# Altium footprint library Connectors.PcbLib: 65 footprints (part 1 of 5)
Each footprint in its own frame and in the unit in brackets; x right, y up, seen from the top. Pads: shape width x height; smd on the part's side, far side on the other; paste and mask are expansions set on the pad; w line width, h text height; cw(c..) or ccw(c..) is an arc to the next point about the centre after c.
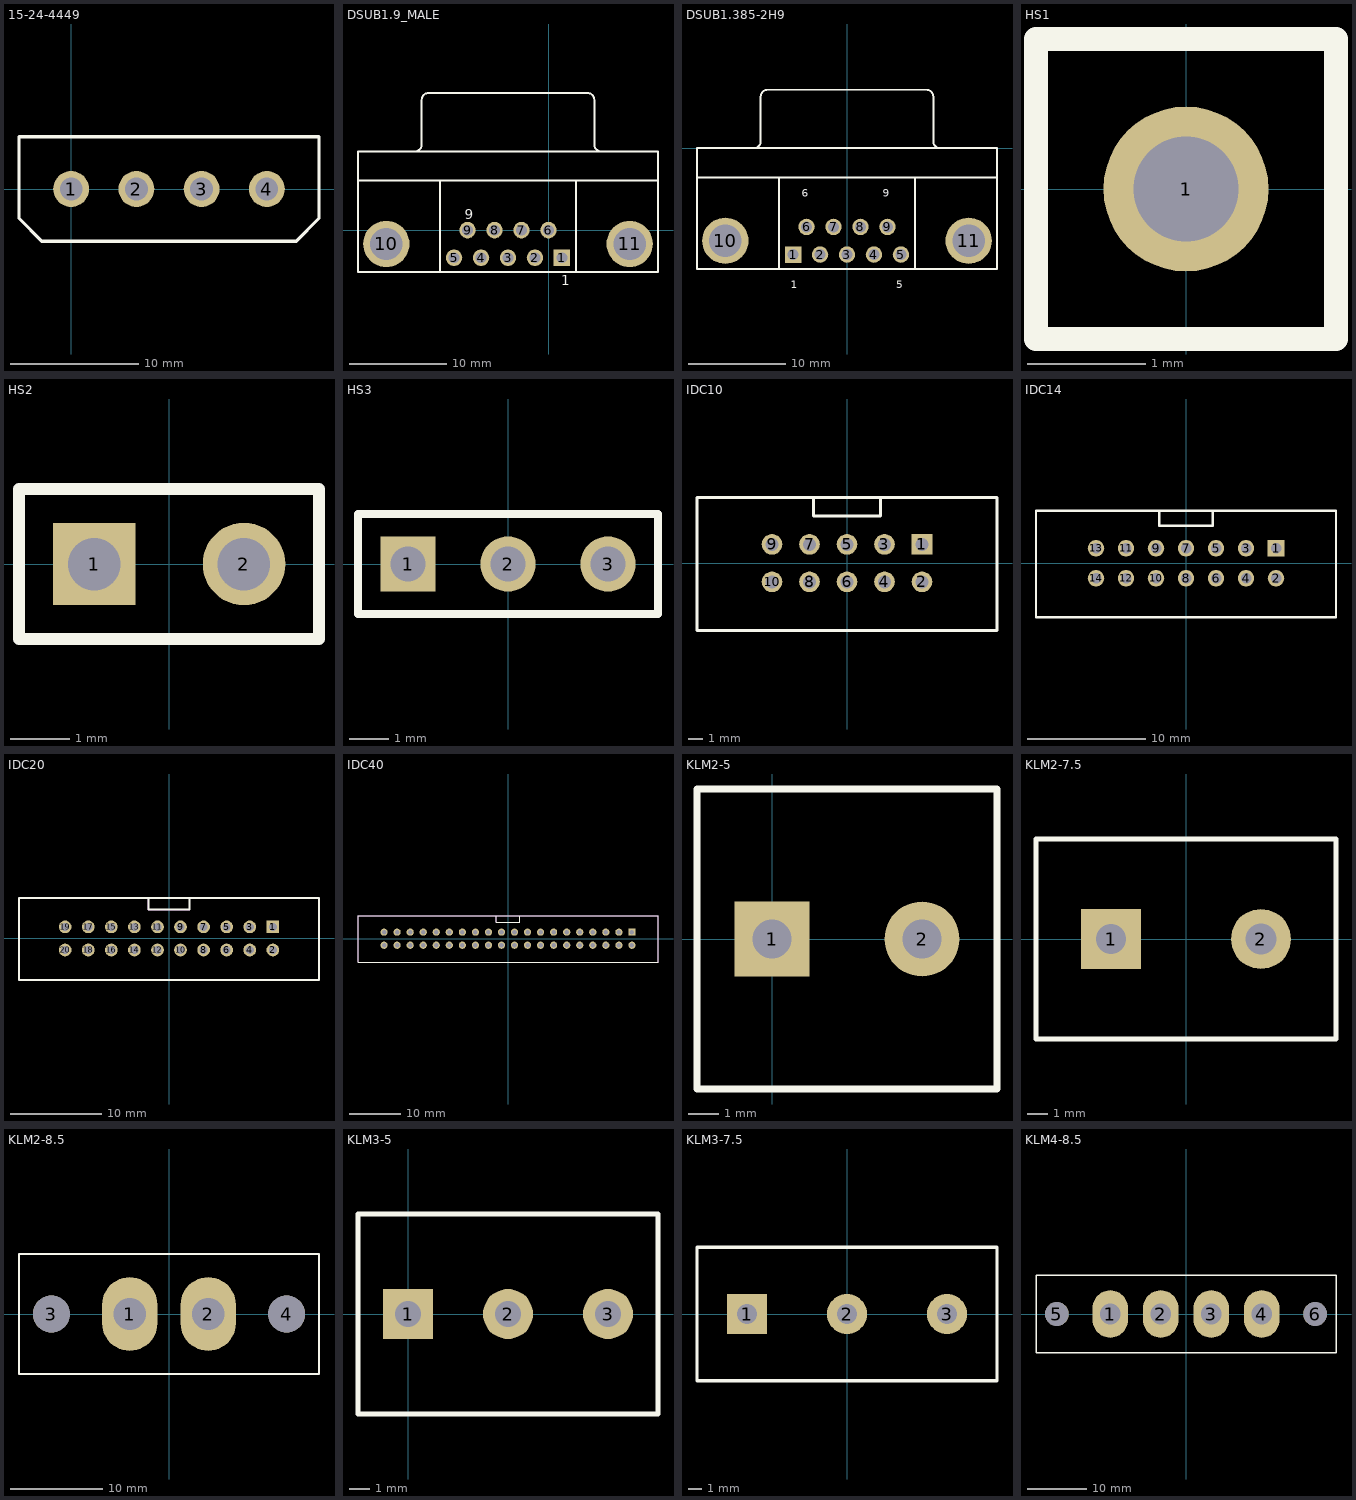
[diagram p0: the footprints below, top view; thin cyan lines are the x and y axes]

## 15-24-4449 [mil] "5.08mm Pitch Disk Drive Power Connection System Header, Vertical, Through Hole, 4  Circuits, Lead-Free, 3.60mm PC Tail Length, without PCB Locator Peg"
height 400
pads (4):
  round 110 hole 70: 1(0,0) 2(200,0) 3(400,0) 4(600,0)
Top Overlay:
  lines w10: -160,-90 -160,160 760,160 760,-90 690,-160 -90,-160 -160,-90

## DSUB1.9_MALE [mm]
pads (11):
  rect 1.69x1.69 hole 1.1: 1(1.382,-2.843)
  round 1.69 hole 1.1: 2(-1.388,-2.843) 3(-4.158,-2.843) 4(-6.928,-2.843) 5(-9.698,-2.843) 6(-0.003,-0.003) 7(-2.773,-0.003) 8(-5.543,-0.003) 9(-8.313,-0.003)
  round 4.76 hole 3.3: 10(-16.653,-1.423) 11(8.337,-1.423)
Top Overlay:
  lines w0.2: -19.558,5.077 11.242,5.077 ; -13.718,8.082 ccw(c-13.718,8.777) -13.023,8.777 -13.023,13.377 ; -13.018,13.382 cw(c-12.323,13.382) -12.323,14.077 4.007,14.077 cw(c4.007,13.382) 4.702,13.382 ; -11.158,-4.323 -11.158,5.077 ; 2.842,-4.323 2.842,5.077 ; 4.707,13.377 4.707,8.777 ccw(c5.402,8.777) 5.402,8.082 ; -19.558,-4.323 -19.558,8.077 11.242,8.077 11.242,-4.323 -19.558,-4.323
  text "1" at 1.321,-5.639 h1
  text "9" at -8.585,1.092 h1

## DSUB1.385-2H9 [mm]
pads (11):
  rect 1.69x1.69 hole 1.1: 1(-5.54,-10.92)
  round 1.69 hole 1.1: 2(-2.77,-10.92) 3(0,-10.92) 4(2.77,-10.92) 5(5.54,-10.92) 6(-4.155,-8.08) 7(-1.385,-8.08) 8(1.385,-8.08) 9(4.155,-8.08)
  round 4.76 hole 3.3: 10(-12.495,-9.5) 11(12.495,-9.5)
Top Overlay:
  lines w0.2: -15.4,-3 15.4,-3 ; -9.56,0.005 ccw(c-9.56,0.7) -8.865,0.7 -8.865,5.3 ; -8.86,5.305 cw(c-8.165,5.305) -8.165,6 8.165,6 cw(c8.165,5.305) 8.86,5.305 ; -7,-12.4 -7,-3 ; 7,-12.4 7,-3 ; 8.865,5.3 8.865,0.7 ccw(c9.56,0.7) 9.56,0.005 ; -15.4,-12.4 15.4,-12.4 15.4,0 -15.4,0 -15.4,-12.4
  text "6" at -4.655,-4.975 h0.8
  text "9" at 3.655,-4.975 h0.8
  text "5" at 5.04,-14.375 h0.8
  text "1" at -5.79,-14.375 h0.8

## HS1 [mil]
pads (1):
  round 55 hole 35 mask+4: 1(0,0)
Top Overlay:
  lines w8: -50,-50 -50,50 50,50 50,-50 -50,-50
Mechanical 1:
  lines w4: -50,-50 -50,50 50,50 50,-50 -50,-50

## HS2 [mil]
pads (2):
  rect 55x55 hole 35 mask+4: 1(-50,0)
  round 55 hole 35 mask+4: 2(50,0)
Top Overlay:
  lines w8: -100,-50 100,-50 100,50 -100,50 -100,-50
Mechanical 1:
  lines w4: -100,-50 100,-50 100,50 -100,50 -100,-50

## HS3 [mil]
pads (3):
  rect 55x55 hole 35 mask+4: 1(-100,0)
  round 55 hole 35 mask+4: 2(0,0) 3(100,0)
Top Overlay:
  lines w8: -150,-50 -150,50 150,50 150,-50 -150,-50
Mechanical 1:
  lines w4: -150,-50 -150,50 150,50 150,-50 -150,-50

## IDC10 [mil]
pads (10):
  rect 55x55 hole 35 mask+4: 1(200,50)
  round 55 hole 35 mask+4: 2(200,-50) 3(100,50) 4(100,-50) 5(0,50) 6(0,-50) 7(-100,50) 8(-100,-50) 9(-200,50) 10(-200,-50)
Top Overlay:
  lines w8: -89,175 -89,125 89,125 89,175 ; -400,-180 -400,175 400,175 400,-180 -400,-180
Mechanical 1:
  lines w4: -89,175 -89,125 89,125 89,175 ; -400,-180 -400,175 400,175 400,-180 -400,-180

## IDC14 [mil]
pads (14):
  rect 55x55 hole 35 mask+4: 1(300,50)
  round 55 hole 35 mask+4: 2(300,-50) 3(200,50) 4(200,-50) 5(100,50) 6(100,-50) 7(0,50) 8(0,-50) 9(-100,50) 10(-100,-50) 11(-200,50) 12(-200,-50) 13(-300,50) 14(-300,-50)
Top Overlay:
  lines w8: -89,175 -89,125 89,125 89,175 ; -500,-180 500,-180 500,175 -500,175 -500,-180
Mechanical 1:
  lines w4: -89,175 -89,125 89,125 89,175 ; -500,-180 500,-180 500,175 -500,175 -500,-180

## IDC20 [mil]
pads (20):
  rect 55x55 hole 35 mask+4: 1(450,50)
  round 55 hole 35 mask+4: 2(450,-50) 3(350,50) 4(350,-50) 5(250,50) 6(250,-50) 7(150,50) 8(150,-50) 9(50,50) 10(50,-50) 11(-50,50) 12(-50,-50) 13(-150,50) 14(-150,-50) 15(-250,50) 16(-250,-50) 17(-350,50) 18(-350,-50) 19(-450,50) 20(-450,-50)
Top Overlay:
  lines w8: -89,175 -89,125 89,125 89,175 ; -650,-180 -650,175 650,175 650,-180 -650,-180
Mechanical 1:
  lines w4: -89,175 -89,125 89,125 89,175 ; -650,-180 -650,175 650,175 650,-180 -650,-180

## IDC40 [mil]
pads (40):
  rect 55x55 hole 35 mask+4: 1(950,50)
  round 55 hole 35 mask+4: 2(950,-50) 3(850,50) 4(850,-50) 5(750,50) 6(750,-50) 7(650,50) 8(650,-50) 9(550,50) 10(550,-50) 11(450,50) 12(450,-50) 13(350,50) 14(350,-50) 15(250,50) 16(250,-50) 17(150,50) 18(150,-50) 19(50,50) 20(50,-50) 21(-50,50) 22(-50,-50) 23(-150,50) 24(-150,-50) 25(-250,50) 26(-250,-50) 27(-350,50) 28(-350,-50) 29(-450,50) 30(-450,-50) 31(-550,50) 32(-550,-50) 33(-650,50) 34(-650,-50) 35(-750,50) 36(-750,-50) 37(-850,50) 38(-850,-50) 39(-950,50) 40(-950,-50)
Top Overlay:
  lines w8: -89,175 -89,125 89,125 89,175 ; -1150,-180 1150,-180 1150,175 -1150,175 -1150,-180
Mechanical 1:
  lines w4: -89,175 -89,125 89,125 89,175 ; -1150,-180 1150,-180 1150,175 -1150,175 -1150,-180

## KLM2-5 [mm]
pads (2):
  rect 2.5x2.5 hole 1.3: 1(0,0)
  round 2.5 hole 1.3: 2(5,0)
Top Overlay:
  lines w0.25: -2.5,-5 -2.5,5 7.5,5 7.5,-5 -2.5,-5

## KLM2-7.5 [mm]
pads (2):
  rect 3x3 hole 1.5: 1(-3.75,0)
  round 3 hole 1.53: 2(3.75,0)
Top Overlay:
  lines w0.25: -7.5,-5 7.5,-5 7.5,5 -7.5,5 -7.5,-5

## KLM2-8.5 [mm]
pads (4):
  oval 6x8 hole 3.5: 1(-4.25,0) 2(4.25,0)
  round 4 hole 4: 3(-12.75,0) 4(12.75,0)
Top Overlay:
  lines w0.25: -16.25,-6.5 16.25,-6.5 16.25,6.5 -16.25,6.5 -16.25,-6.5

## KLM3-5 [mm]
pads (3):
  rect 2.5x2.5 hole 1.3: 1(0,0)
  round 2.5 hole 1.3: 2(5,0) 3(10,0)
Top Overlay:
  lines w0.25: -2.5,-5 12.5,-5 12.5,5 -2.5,5 -2.5,-5

## KLM3-7.5 [mm]
pads (3):
  rect 3x3 hole 1.5: 1(-7.5,0)
  round 3 hole 1.53: 2(0,0) 3(7.5,0)
Top Overlay:
  lines w0.25: -11.25,-5 -11.25,5 11.25,5 11.25,-5 -11.25,-5

## KLM4-8.5 [mm]
pads (6):
  oval 6x8 hole 3.5: 1(-12.75,0) 2(-4.25,0) 3(4.25,0) 4(12.75,0)
  round 4 hole 4: 5(-21.75,0) 6(21.75,0)
Top Overlay:
  lines w0.25: -25.25,-6.5 -25.25,6.5 25.25,6.5 25.25,-6.5 -25.25,-6.5